# EAGLE library part 74LVC4245A (library df4iah_dataconvertion)
Octal dual supply translating transceiver; 3-state 5 V tolerant inputs/outputs, for interfacing with 5 V logic Wide supply voltage range: 3 V bus (VCC(B)): 1.5 V to 3.6 V 5 V bus (VCC(A)): 1.5 V to 5.5 V CMOS low-power consumption Direct interface with TTL levels Inputs accept voltages up to 5.5 V High-impedance when VCC(A) = 0 V Complies with JEDEC standard no. JESD8B/JESD36 ESD protection: HBM JESD22-A114F exceeds 2000 V MM JESD22-A115-A exceeds 200 V Multiple package options Specified from -40 °C to +85 °C and -40 °C to +125 °C
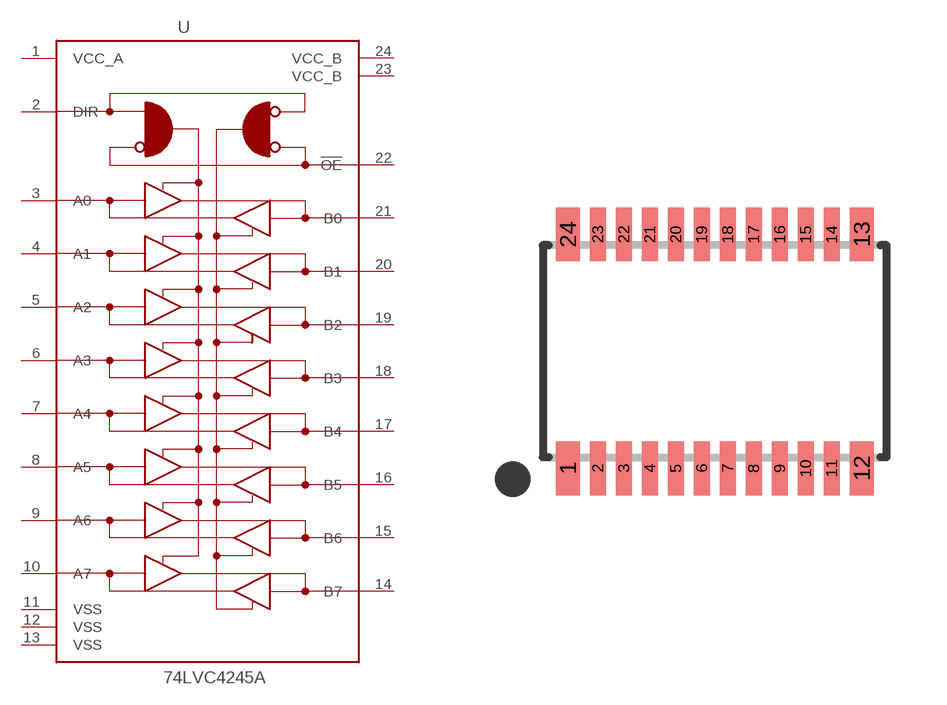
[diagram p6: symbol with the pads of TSSOP24_SOT355-1; footprint TSSOP24_SOT355-1]

Designator prefix U

## 74LVC4245A  [TSSOP24_SOT355-1]
1  VCC_A  pwr
2  DIR  in
3  A0
4  A1
5  A2
6  A3
7  A4
8  A5
9  A6
10  A7
11  VSS  pas
12  VSS  pas
13  VSS  pas
14  B7
15  B6
16  B5
17  B4
18  B3
19  B2
20  B1
21  B0
22  !OE  in
23  VCC_B  pwr
24  VCC_B  pwr

## Footprint TSSOP24_SOT355-1 (pad centres in mm)
Thin Shrink Small Outline Package TSSOP-24 / SOT355-1 body: 4.40mm width pitch: 0.65mm
smd 0.6 x 1.35: 1 -3.675,-2.925; 12 3.675,-2.925; 13 3.675,2.925; 24 -3.675,2.925
smd 0.4 x 1.35: 2 -2.925,-2.925; 3 -2.275,-2.925; 4 -1.625,-2.925; 5 -0.975,-2.925; 6 -0.325,-2.925; 7 0.325,-2.925; 8 0.975,-2.925; 9 1.625,-2.925; 10 2.275,-2.925; 11 2.925,-2.925; 14 2.925,2.925; 15 2.275,2.925; 16 1.625,2.925; 17 0.975,2.925; 18 0.325,2.925; 19 -0.325,2.925; 20 -0.975,2.925; 21 -1.625,2.925; 22 -2.275,2.925; 23 -2.925,2.925